# Altium schematic symbol library Molk.SchLib: 1 symbol
Pins are listed as number, name and electrical type; pins without a type are passive.

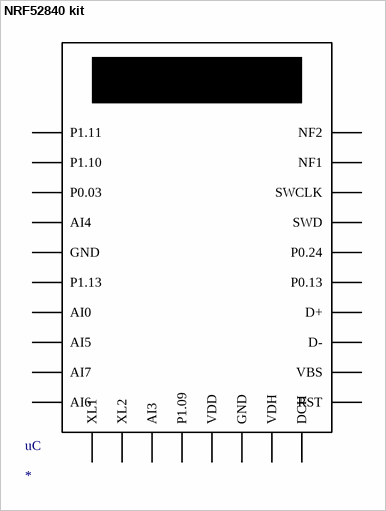
[diagram p0: symbol NRF52840 kit]

## NRF52840 kit
designator uC
Supplier 1: TME; Supplier Part Number 1: NRF52840-QIAA-R
footprint uC_NRF52840 (QFN, 40-Leads, Body 13,05x18,05mm, Pitch 1,27mm, Thermal Pad 8,90x8,90mm, IPC Medium Density)
pins: 1 P1.11, 2 P1.10, 3 P0.03, 4 AI4, 5 GND, 6 P1.13, 7 AI0, 8 AI5, 9 AI7, 10 AI6, 11 XL1, 12 XL2, 13 AI3, 14 P1.09, 15 VDD, 16 GND, 17 VDH, 18 DCH, 21 RST, 22 VBS, 23 D-, 24 D+, 25 P0.13, 26 P0.24, 27 SWD, 28 SWCLK, 29 NF1, 30 NF2